# EAGLE library part CDCLVC1110 (library cdclvc11xx_10)
CDCLVC1110 3.3V and 2.5V LVCMOS High-Performance Clock Buffer - 1:10 Fan-out Source: http://www.ti.com/lit/ds/symlink/cdclvc1110.pdf
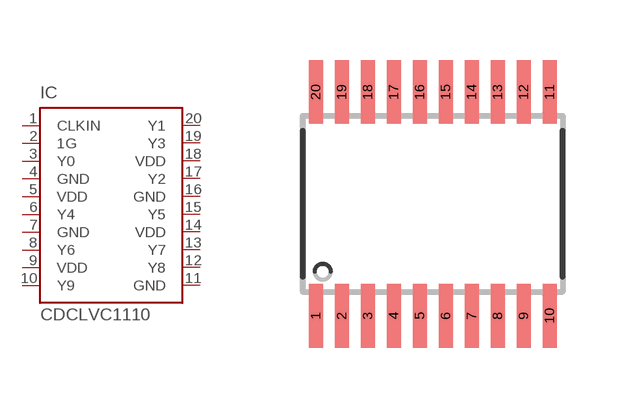
[diagram p5: symbol with the pads of TSSOP20; footprint TSSOP20]

Designator prefix IC

## CDCLVC1110PW (MF: Texas Instruments; MPN: CDCLVC1110; OC_FARNELL: unknown; OC_NEWARK: 79R7916)  [TSSOP20]
1  CLKIN  in
2  1G  in
3  Y0  out
4  GND  pwr
5  VDD  pwr
6  Y4  out
7  GND  pwr
8  Y6  out
9  VDD  pwr
10  Y9  out
11  GND  pwr
12  Y8  out
13  Y7  out
14  VDD  pwr
15  Y5  out
16  GND  pwr
17  Y2  out
18  VDD  pwr
19  Y3  out
20  Y1  out

## Footprint TSSOP20 (pad centres in mm)
TSSOP-20 Plastic Thin Srink Small Outline (PW) Source: http://www.ti.com/lit/ds/symlink/cdclvc1110.pdf
smd 0.35 x 1.6: 1 -2.925,-2.8; 2 -2.275,-2.8; 3 -1.625,-2.8; 4 -0.975,-2.8; 5 -0.325,-2.8; 6 0.325,-2.8; 7 0.975,-2.8; 8 1.625,-2.8; 9 2.275,-2.8; 10 2.925,-2.8; 11 2.925,2.8; 12 2.275,2.8; 13 1.625,2.8; 14 0.975,2.8; 15 0.325,2.8; 16 -0.325,2.8; 17 -0.975,2.8; 18 -1.625,2.8; 19 -2.275,2.8; 20 -2.925,2.8